# Altium footprint library General.PcbLib: 19 footprints (part 1 of 2)
Each footprint in its own frame and in the unit in brackets; x right, y up, seen from the top. Pads: shape width x height; smd on the part's side, far side on the other; paste and mask are expansions set on the pad; w line width, h text height; cw(c..) or ccw(c..) is an arc to the next point about the centre after c.
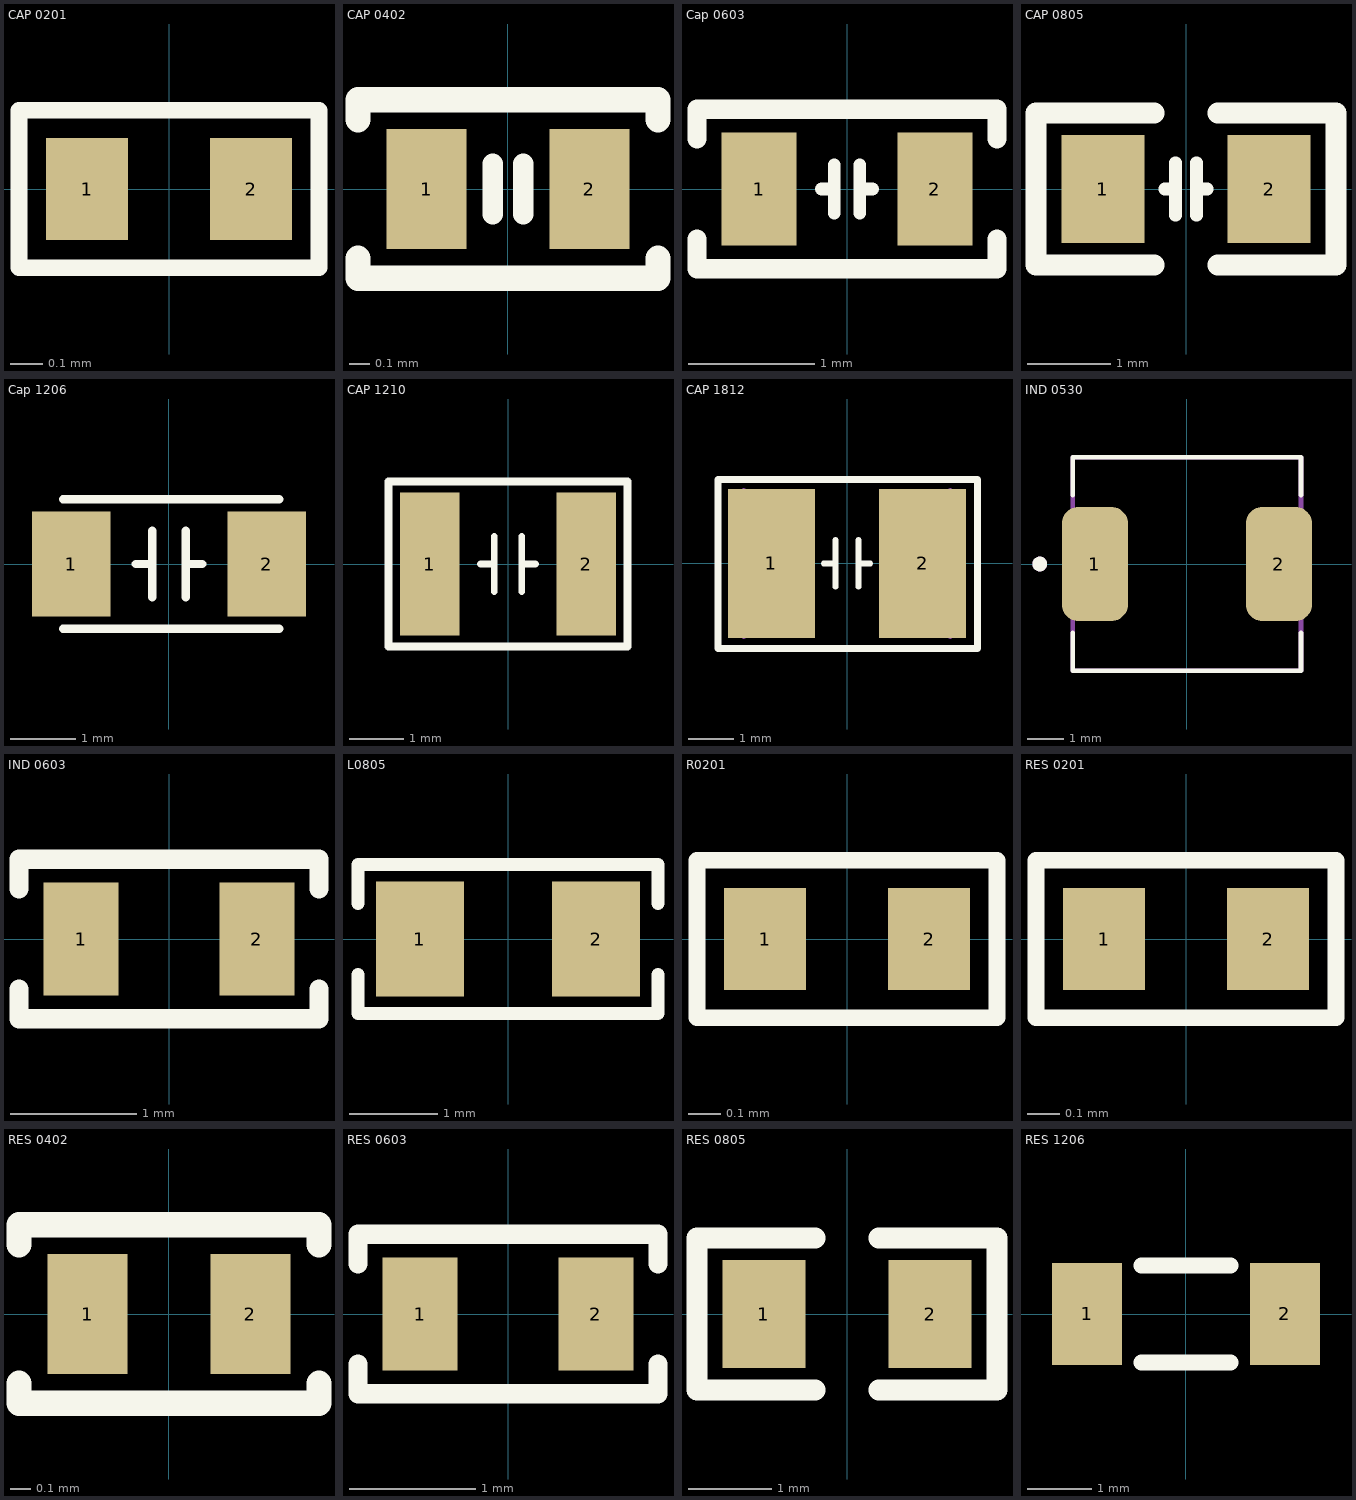
[diagram p0: the footprints below, top view; thin cyan lines are the x and y axes]

## CAP 0201 [mm] "Chip Capacitor, 2-Leads, Body 0.65x0.35mm, IPC Medium Density"
height 0.3
pads (2):
  rect 0.25x0.31 smd mask+0.051: 1(-0.25,0) 2(0.25,0)
Top Overlay:
  lines w0.051: -0.458,-0.24 0.457,-0.24 0.457,0.241 -0.458,0.241 -0.458,-0.24
3D body "C0201.stp": height 0.32, standoff 0.02, extent -0.3,-0.15 0.3,0.15

## CAP 0402 [mm]
pads (2):
  rect 0.4x0.6 smd mask+0.051: 1(-0.406,0) 2(0.406,0)
Top Overlay:
  lines w0.102: -0.076,-0.127 -0.076,0.127 ; 0.076,-0.127 0.076,0.127
  lines w0.127: -0.75,-0.345 -0.75,-0.445 0.75,-0.445 0.75,-0.345 ; -0.75,0.346 -0.75,0.446 0.75,0.446 0.75,0.346
3D body "capacitor-0402C.step": height 0.35, standoff 0, extent -0.5,-0.265 0.5,0.265

## Cap 0603 [mm]
height 5.08
pads (2):
  rect 0.6x0.9 smd mask+0.076: 1(-0.7,0) 2(0.7,0)
Top Overlay:
  lines w0.102: -0.203,0 -0.102,0 ; -0.102,-0.191 -0.102,0.191 ; 0.102,-0.191 0.102,0.191 ; 0.102,0 0.203,0
  lines w0.152: -1.194,-0.399 -1.194,-0.635 1.194,-0.635 1.194,-0.399 ; -1.194,0.399 -1.194,0.635 1.194,0.635 1.194,0.399
3D body "User Library-CAPC1608X09.step": height 0.9, standoff 0, extent -0.8,-0.4 0.8,0.4

## CAP 0805 [mm] "Compoment SMD 80x50mil"
height 1.27
pads (2):
  rect 1x1.3 smd: 1(-0.999,0) 2(0.999,0)
Top Overlay:
  lines w0.152: -0.254,0 -0.127,0 ; -0.127,-0.318 -0.127,0.318 ; 0.127,-0.318 0.127,0.318 ; 0.127,0 0.254,0
  lines w0.25: -0.381,-0.914 -1.803,-0.914 -1.803,0.914 -0.381,0.914 ; 0.381,-0.914 1.803,-0.914 1.803,0.914 0.381,0.914
3D body "SW3dPS-0805 SMD Capacitor.STEP": height 0.78, standoff 0, extent -1,-0.625 1,0.625

## Cap 1206 [mm]
height 1.1
pads (2):
  rect 1.2x1.6 smd: 1(-1.492,0.001) 2(1.492,-0.001)
Top Overlay:
  lines w0.127: -1.619,-0.99 1.683,-0.99 ; -1.619,0.991 1.683,0.991 ; -0.508,0 -0.254,0 ; -0.254,-0.508 -0.254,0.508 ; 0.254,-0.508 0.254,0.508 ; 0.254,0 0.508,0
3D body "capacitor 1206.step": height 0.94, standoff 0, extent -1.6,-0.8 1.6,0.8

## CAP 1210 [mm] "Chip Capacitor, 2-Leads, Body 3.20x2.50mm, IPC Medium Density"
height 1.7
pads (2):
  rect 1.1x2.65 smd: 1(-1.45,0) 2(1.45,0)
Top Overlay:
  lines w0.127: -0.508,0 -0.254,0 ; -0.254,-0.508 -0.254,0.508 ; 0.254,-0.508 0.254,0.508 ; 0.254,0 0.508,0
  lines w0.152: -2.21,-1.524 -2.21,1.524 2.21,1.524 2.21,-1.524 -2.21,-1.524
Mechanical 13:
  lines w0.1: -1.6,-1.25 -1.6,1.25 ; 1.6,-1.25 1.6,1.25
3D body "C1210.stp": height 2.02, standoff 0.02, extent -1.6,-1.25 1.6,1.25

## CAP 1812 [mm] "Chip Capacitor, 2-Leads, Body 4.50x3.20mm, IPC Medium Density"
height 3.5
pads (2):
  rect 1.9x3.25 smd: 1(-1.65,0) 2(1.65,0)
Top Overlay:
  lines w0.127: -0.508,0 -0.254,0 ; -0.254,-0.508 -0.254,0.508 ; 0.254,-0.508 0.254,0.508 ; 0.254,0 0.508,0
  lines w0.152: -2.819,-1.854 -2.819,1.829 2.845,1.829 2.845,-1.854 -2.819,-1.854
Mechanical 13:
  lines w0.1: -2.25,-1.6 -2.25,1.6 ; 2.25,-1.6 2.25,1.6
3D body "C1812.stp": height 2.67, standoff 0.07, extent -2.25,-1.6 2.25,1.6

## IND 0530 [mm] "IND SMD 0530"
pads (2):
  rrect50% 1.8x3.1 smd: 1(-2.5,0) 2(2.5,0)
Top Overlay:
  circle w0.2: c-4,0 r0.1
  lines w0.127: -3.1,-1.863 -3.1,-2.9 3.1,-2.9 3.1,-1.863 ; -3.1,1.863 -3.1,2.9 3.1,2.9 3.1,1.863
Mechanical 13:
  circle w0.2: c-4,0 r0.1
  lines w0.127: -3.1,-2.9 -3.1,2.9 3.1,2.9 3.1,-2.9 -3.1,-2.9
3D body "FDV0530-H-1R5M=P3--3DModel-STEP-46669.STEP": height 3, standoff 0, extent -3.1,-2.9 3.1,2.9

## IND 0603 [mm] "INDUCTOR 0603"
pads (2):
  rect 0.6x0.9 smd mask+0.076: 1(-0.7,0) 2(0.7,0)
Top Overlay:
  lines w0.152: -1.194,-0.399 -1.194,-0.635 1.194,-0.635 1.194,-0.399 ; -1.194,0.399 -1.194,0.635 1.194,0.635 1.194,0.399
3D body "step_temp.STEP": height 0.95, standoff 0, extent -0.8,-0.4 0.8,0.4

## L0805 [mm]
pads (2):
  rect 1x1.3 smd: 1(-0.999,0) 2(0.999,0)
Top Overlay:
  lines w0.152: -1.702,-0.406 -1.702,-0.845 1.702,-0.845 1.702,-0.406 ; -1.702,0.406 -1.702,0.845 1.702,0.845 1.702,0.406
3D body "R0805.step": height 0.5, standoff 0, extent -1,-0.625 1,0.625

## R0201 [mm]
pads (2):
  rect 0.25x0.31 smd mask+0.051: 1(-0.25,0) 2(0.25,0)
Top Overlay:
  lines w0.051: -0.458,-0.24 0.457,-0.24 0.457,0.241 -0.458,0.241 -0.458,-0.24
3D body "ERJ-U01F1601C.STEP": height 0.23, standoff 0, extent -0.3,-0.15 0.3,0.15

## RES 0201 [mm]
pads (2):
  rect 0.25x0.31 smd mask+0.051: 1(-0.25,0) 2(0.25,0)
Top Overlay:
  lines w0.051: -0.458,-0.24 -0.458,0.241 0.457,0.241 0.457,-0.24 -0.458,-0.24
3D body "R0201.step": height 0.23, standoff 0, extent -0.3,-0.15 0.3,0.15

## RES 0402 [mm]
pads (2):
  rect 0.4x0.6 smd mask+0.051: 1(-0.406,0) 2(0.406,0)
Top Overlay:
  lines w0.127: -0.75,-0.345 -0.75,-0.445 0.75,-0.445 0.75,-0.345 ; -0.75,0.346 -0.75,0.446 0.75,0.446 0.75,0.346
3D body "R0402.step": height 0.32, standoff 0, extent -0.475,-0.25 0.526,0.25

## RES 0603 [mm] "RES 0603"
height 0.5
pads (2):
  rect 0.6x0.9 smd mask+0.076: 1(-0.7,0) 2(0.7,0)
Top Overlay:
  lines w0.152: -1.194,-0.399 -1.194,-0.635 1.194,-0.635 1.194,-0.399 ; -1.194,0.399 -1.194,0.635 1.194,0.635 1.194,0.399
3D body "R0603.step": height 0.45, standoff 0, extent -0.8,-0.4 0.8,0.4

## RES 0805 [mm]
pads (2):
  rect 1x1.3 smd: 1(-0.999,0) 2(0.999,0)
Top Overlay:
  lines w0.25: -0.381,-0.914 -1.803,-0.914 -1.803,0.914 -0.381,0.914 ; 0.381,-0.914 1.803,-0.914 1.803,0.914 0.381,0.914
3D body "R0805.step": height 0.5, standoff 0, extent -1,-0.625 1,0.625

## RES 1206 [mm]
pads (2):
  rect 1.1x1.6 smd: 1(-1.55,0) 2(1.55,0)
Top Overlay:
  lines w0.254: -0.698,-0.762 0.699,-0.762 ; -0.698,0.762 0.699,0.762
3D body "RESC3217X06N.step": height 0.6, standoff 0, extent -1.6,-0.85 1.6,0.85